# Altium schematic symbol library THVD1400DR.SchLib: 1 symbol
Pins are listed as number, name and electrical type; pins without a type are passive.

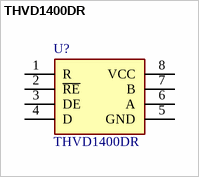
[diagram p0: symbol THVD1400DR]

## THVD1400DR
designator U?
RS-422/RS-485 Interface IC 3.3-V to 5-V RS-485 transceiver in small package with +/-8-kV IEC ESD protection 8-SOIC -40 to 125; Manufacturer_Name: Texas Instruments; Geometry.Height: 1.75mm; Manufacturer_Part_Number: THVD1400DR; Mouser Part Number: 595-THVD1400DR; Mouser Price/Stock: https://www.mouser.co.uk/ProductDetail/Texas-Instruments/THVD1400DR?qs=eP2BKZSCXI7bzZdDjIHgHQ%3D%3D; Arrow Part Number: THVD1400DR; Arrow Price/Stock: https://www.arrow.com/en/products/thvd1400dr/texas-instruments?region=nac; Datasheet Link: https://www.arrow.com/en/products/thvd1400dr/texas-instruments
footprint SOIC127P600X175-8N
pins: 1 R, 2 ~{RE}, 3 DE, 4 D, 5 GND, 6 A, 7 B, 8 VCC